# Altium schematic symbol library VSIN.Schlib: 1 symbol
Pins are listed as number, name and electrical type; pins without a type are passive.

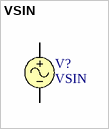
[diagram p0: symbol VSIN]

## VSIN
designator V?
Sinusoidal Voltage Source
pins: 1, 2